# Altium schematic symbol library FTDI.SchLib: 1 symbol
Pins are listed as number, name and electrical type; pins without a type are passive.

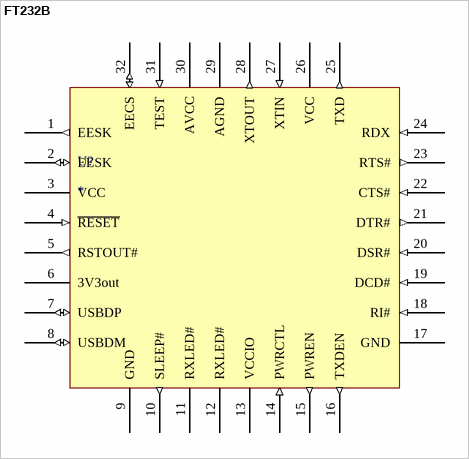
[diagram p0: symbol FT232B]

## FT232B
designator U?
The FT232B is a USB to serial UART / interface; ComponentLink1Description: Datasheet; ComponentLink1URL: http://www.farnell.com/datasheets/1803231.pdf?_ga=2.42688038.2091339076.1550949916-1549779019.1547751625
pins: 1 EESK (out) "Clock signal to EEPROM. Tri-State during device reset, else drives out. Adding a 10K pull down resistor onto EESK will cause the FT232B to use USB Product ID 6004 (hex) instead of 6001 (hex). All of the other USB device descriptors are unchanged.", 2 EESK (io) "EEPROM – Data I/O Connect directly to Data-In of the EEPROM and to Data-Out of  the EEPROM via a 2.2K resistor. Also, pull Data-Out of the EEPROM to VCC via a 10K resistor for correct operation. Tri-State during device reset.", 3 VCC (power) "+4.35 volt to +5.25 volt VCC to the device core, LDO and non-UART interface pins", 4 ~{RESET} (in) "Active low reset pin. This can be used by an external device to reset the FT232B. If not required can be left unconnected, or pulled up to VCC.", 5 RSTOUT# (out) "Output of the internal Reset Generator. Stays high impedance for ~ 5ms after VCC > 3.5V and the internal clock starts up, and then clamps its output to the 3.3v output of the internal regulator. Taking RESET# low will also force RSTOUT# to drive low. RSTOUT# is NOT affected by a USB Bus Reset", 6 3V3out (power) "3.3 volt Output from the integrated LDO regulator This pin should be decoupled to GND using a 33nF ceramic capacitor in close proximity to the device pin. Its prime purpose is to provide the internal 3.3V supply to the USB transceiver cell and the RSTOUT# pin. A small amount of current (<= 5mA) can be drawn from this pin to power external 3.3v logic if required.", 7 USBDP (io) "USB Data Signal Plus ( Requires 1.5k pull-up to 3V3OUT or RSTOUT# )", 8 USBDM (io) "USB Data Signal Minus", 9 GND (power) "Device ground supply pins", 10 SLEEP# (out) "Goes Low during USB Suspend Mode. Typically used to power-down an external TTL to RS232 level converter IC in USB <-> RS232 converter designs", 11 RXLED# (oc) "LED Drive – Pulses Low when Receiving Data via USB", 12 RXLED# (oc) "LED Drive – Pulses Low when Transmitting Data via USB", 13 VCCIO (power) "+3.0 volt to +5.25 volt VCC to the UART interface pins 10...12, 14...16 and 18...25. When interfacing with 3.3V external logic in a bus powered design connect VCCIO to a 3.3V supply generated from the USB bus. When interfacing with 3.3V external logic in a self powered design connect VCCIO to the 3.3V supply of the external logic. Otherwise connect to VCC to drive out at 5V CMOS level.", 14 PWRCTL (in) "Bus Powered – Tie Low / Self Powered – Tie High (to VCCIO)", 15 PWREN (out) "Goes Low after the device is configured via USB, then high during USB suspend. Can be used to control power to external logic using a P-Channel Logic LevelMOSFET switch. Enable the Interface Pull-Down Option in EEPROM when using the PWREN# pin in this way.", 16 TXDEN (out) "Enable Transmit Data for RS485.", 17 GND (power) "Device ground supply pins", 18 RI# (in) "Ring Indicator Control Input. When remote wake up is enabled in the internal EEPROM taking RI# low (20ms active low pulse) can be used to resume the PC USB host controller from suspend.", 19 DCD# (in) "Data Carrier Detect Control Input.", 20 DSR# (in) "Data Set Ready Control Input / Handshake Signal.", 21 DTR# (out) "Clear To Send Control Input / Handshake Signal.", 22 CTS# (in) "Data Terminal Ready Control Output / Handshake Signal.", 23 RTS# (out) "Request to Send Control Output / Handshake Signal.", 24 RDX (in) "Receiving Asynchronous Data Input", 25 TXD (out) "Transmit Asynchronous Data Output.", 26 VCC (power) "+4.35 volt to +5.25 volt VCC to the device core, LDO and non-UART interface pins", 27 XTIN (in) "Input to 6MHz Crystal Oscillator Cell. This pin can also be driven by an external 6MHz clock if required. Note: Switching threshold of this pin is VCC/2, so if driving from an external source, the source must be driving at 5V CMOS level or AC-coupled to centre around VCC/2.", 28 XTOUT (out) "Output from 6MHz Crystal Oscillator Cell. XTOUT stops oscillating during USB suspend, so take care if using this signal to clock external logic.", 29 AGND (power) "Device analogue ground supply for internal x8 clock multiplier", 30 AVCC (power) "Device analogue power supply for internal x8 clock multiplier", 31 TEST (in) "Puts the device into IC test mode. Must be tied to GND for normal operation, otherwise the device will appear to fail.", 32 EECS (io) "EEPROM – Chip Select. For 48MHz operation pull EECS to GND using a 10K resistor. For 6MHz operation no resistor is required. Tri-State during device reset."